# Altium schematic symbol library self.SchLib: 105 symbols (part 1 of 2)
Pins are listed as number, name and electrical type; pins without a type are passive.

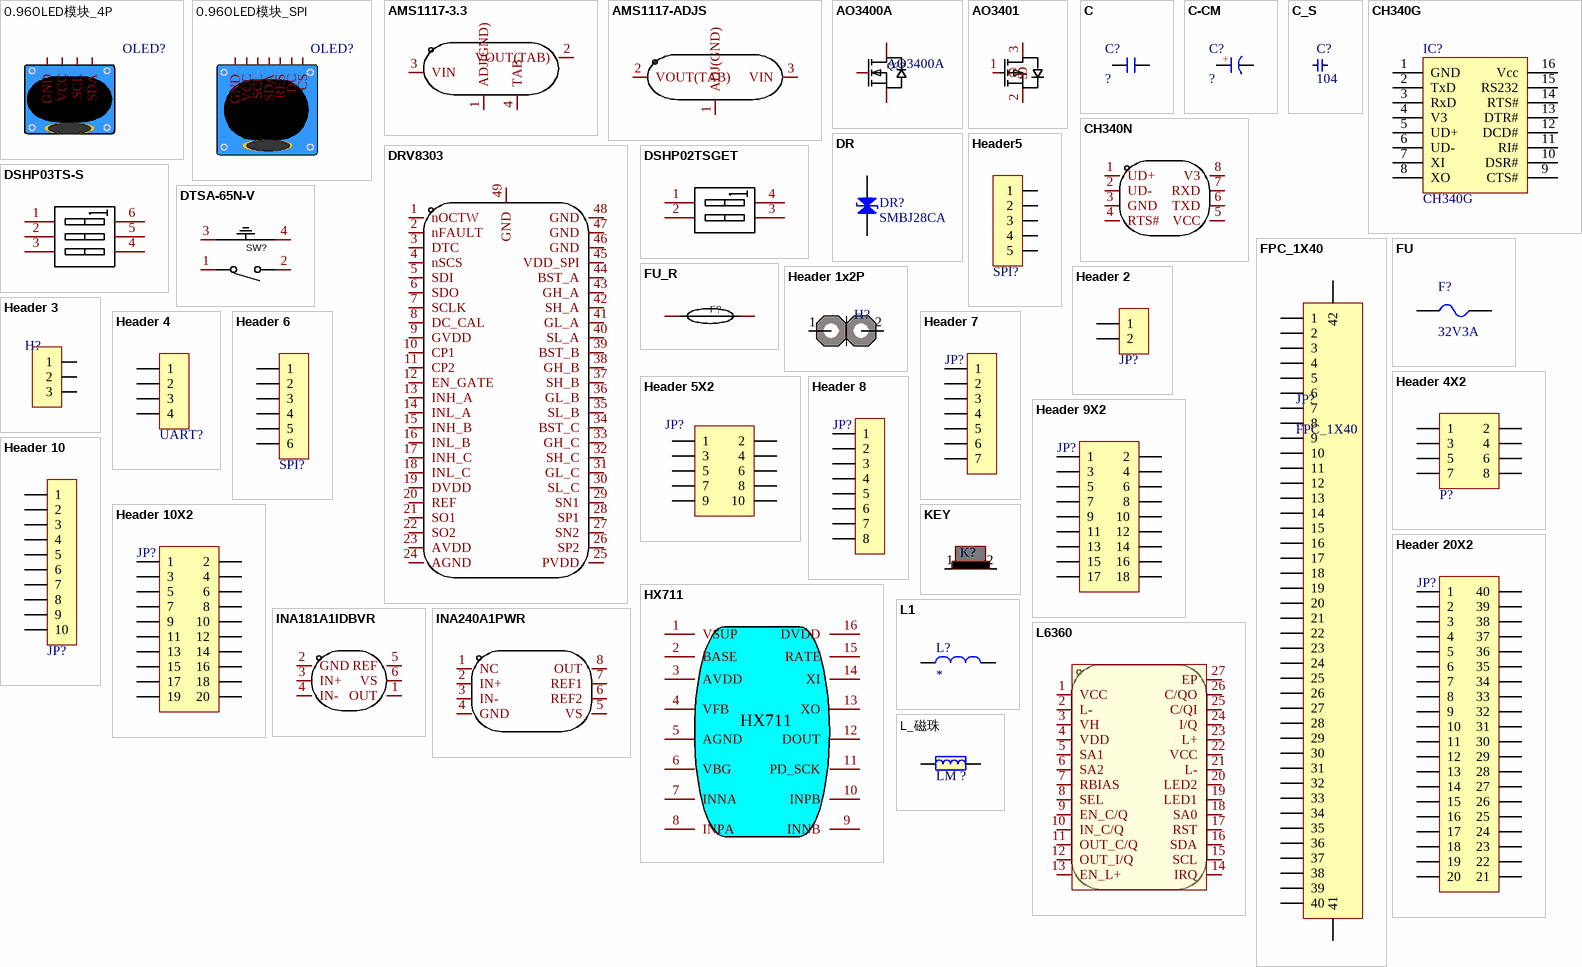
[diagram p0: symbols 0.96OLED模块_4P to L_磁珠]

## 0.96OLED模块_4P
designator OLED?  (value not drawn)
Convert to PCB: yes; Symbol: 0.96OLED模块_4P; Device: 0.96OLED模块_4P; Add into BOM: yes; Supplier Footprint: 插件
footprint 0.96OLED_4P
pins: 1 GND, 2 VCC, 3 SCL, 4 SDA

## 0.96OLED模块_SPI
designator OLED?, comment 0.96OLED模块_4P  (value not drawn)
Convert to PCB: yes; Symbol: 0.96OLED模块_4P; Device: 0.96OLED模块_4P; Add into BOM: yes; Supplier Footprint: 插件
footprint OLED-7P-SPI (排母，7脚)
pins: 1 GND, 2 VCC, 3 SCL, 4 SDA, 5 RES, 6 DC, 7 CS

## AMS1117-3.3
designator U??  (value not drawn)
5V转3V3; Manufacturer: UMW(广东友台半导体); Symbol: AMS1117-3.3_C347222; Add into BOM: yes; Output Type: 固定; Output Polarity: 正; Number of Outputs: 1; Maximum Input Voltage: 18V; Output Voltage: 3.3V; Dropout Voltage: 1.3V@(1A); Output Current: 1A; Power Supply Rejection Ratio (PSRR): 60dB@(120Hz); Name: AMS1117-3.3; Device: AMS1117-3.3_C347222; LCSC Part Name: AMS1117-3.3; Supplier Part: C347222; Manufacturer Part: AMS1117-3.3; Supplier Footprint: SOT-223; JLCPCB Part Class: Extended Part; Datasheet: https://atta.szlcsc.com/upload/public/pdf/source/20211011/50CC665C22E3A66C08379A4A74BDA25C.pdf; Supplier: LCSC; Convert to PCB: yes
footprint AMS1117-3.3(M) (SOT-223-4_L6.5-W3.5-P2.30-LS7.0-BR)
pins: 1 ADJ(GND), 2 VOUT(TAB), 3 VIN, 4 TAB

## AMS1117-ADJS
designator U??  (value not drawn)
可调LDO; Manufacturer: UMW(广东友台半导体); Add into BOM: yes; Name: AMS1117-ADJS; Symbol: AMS1117-ADJS; Device: AMS1117-ADJS; LCSC Part Name: AMS1117-ADJS; Supplier Part: C3014296; Manufacturer Part: AMS1117-ADJS; Supplier Footprint: SOT-89-3; JLCPCB Part Class: Extended Part; Datasheet: https://atta.szlcsc.com/upload/public/pdf/source/20181218/C351450_92F5FFD1D089F5E1CE84AA29B13D48DD.pdf; Supplier: LCSC; Convert to PCB: yes
footprint AMS1117-ADJ (SOT-89-3_L4.5-W2.5-P1.50-LS4.1-BL)
pins: 1 ADJ(GND), 2 VOUT(TAB), 3 VIN

## AO3400A
designator Q??
NMOS; Manufacturer: BORN(伯恩半导体); Symbol: AO3400A_C344010; Add into BOM: yes; Type: N沟道; Drain Source Voltage (Vdss): 30V; Continuous Drain Current (Id): 5.8A; Power Dissipation (Pd): 1.4W; Drain Source On Resistance (RDS(on)@Vgs,Id): 32mΩ@10V,5.8A; Gate Threshold Voltage (Vgs(th)@Id): 1.4V@250uA; Name: AO3400A; Device: AO3400A_C344010; LCSC Part Name: N沟道 耐压:30V 电流:5.8A; Supplier Part: C344010; Manufacturer Part: AO3400A; Supplier Footprint: SOT-23; JLCPCB Part Class: Extended Part; Datasheet: https://atta.szlcsc.com/upload/public/pdf/source/20181211/C344010_1A88330921524F88534EF594457919E8.pdf; Supplier: LCSC; Convert to PCB: yes
footprint SOT23-3L (3x1.3x1mm(长宽高))
footprint SOT23-3N (3x1.3x1mm(长宽高))
pins: 1 G, 2 S, 3 D

## AO3401
designator Q??, comment AO3401_C727156  (value not drawn)
PMOS; Manufacturer: TWGMC(台湾迪嘉); Name: AO3401; Add into BOM: yes; Type: P沟道; Drain Source Voltage (Vdss): 30V; Continuous Drain Current (Id): 4.2A; Power Dissipation (Pd): 350mW; Drain Source On Resistance (RDS(on)@Vgs,Id): 65mΩ@10V,4.2A; Gate Threshold Voltage (Vgs(th)@Id): 1.3V@250uA; Symbol: AO3401_C727156; Device: AO3401_C727156; LCSC Part Name: P沟道 30V 4.2A; Supplier Part: C727156; Manufacturer Part: AO3401; Supplier Footprint: SOT-23; JLCPCB Part Class: Extended Part; Datasheet: https://atta.szlcsc.com/upload/public/pdf/source/20200827/C727156_6E081BBEEFBC6B8FEE164CB196B0AF30.pdf; Supplier: LCSC; Convert to PCB: yes; Total Gate Charge (Qg@Vgs): -; Input Capacitance (Ciss@Vds): -; Reverse Transfer Capacitance (Crss@Vds): -; Operating Temperature: -
footprint SOT23-3N (3x1.3x1mm(长宽高))
footprint SOT23-3L (3x1.3x1mm(长宽高))
pins: 1 G, 2 S, 3 D

## C
designator C?, comment ?
无极性贴片电容; 版权归属: 源创客; BOM名称: 无极性贴片电容; 学习资源: www.ooocke.com
footprint C_0201 (无极性贴片电容)
footprint C 0402_L (无极性贴片电容)
footprint C 0402_M (无极性贴片电容)
footprint C 0603_L (无极性贴片电容)
footprint C_0805
footprint C_1206
footprint C 1210_L (无极性贴片电容)
pins: 1, 2

## C-CM
designator C?, comment ?
贴片电解电容; 版权归属: 源创客; BOM名称: 贴片电解电容; 学习资源: www.ooocke.com
footprint CAP_SMD 6.3x7.7 (CAP-SMD_BD6.3-L6.6-W6.6-LS7.6-RD)
footprint CAP_T_S (CAP-SMD_L1.6-W0.8-1)
footprint CAP_T (CAP-SMD_L3.5-W2.8-R-RD)
pins: 1 A, 2 K
text: +

## C_S
designator C?, comment 104
无极性贴片电容
footprint C_0201 (贴片无极性电容0201封装)
footprint C 0402_M (无极性贴片电容)
footprint C_0805 (贴片无极性电容0805封装)
footprint C 0603_L (无极性贴片电容)
footprint C 1210_L (无极性贴片电容)
footprint C_1206
footprint C 0402_L (无极性贴片电容)
pins: 1, 2

## CH340G
designator IC?
串口转USB; BOM名称: 串口转USB
footprint SOP16_N (10.3*6.2*1.8mm（长宽高）)
footprint SOP16_N (10.3*6.2*1.8mm（长宽高）)
pins: 1 GND, 2 TxD, 3 RxD, 4 V3, 5 UD+, 6 UD-, 7 XI, 8 XO, 9 CTS#, 10 DSR#, 11 RI#, 12 DCD#, 13 DTR#, 14 RTS#, 15 RS232, 16 Vcc

## CH340N
designator U??  (value not drawn)
Manufacturer: WCH(南京沁恒); Symbol: CH340N_C2977777; Add into BOM: yes; Device: CH340N; Supplier: LCSC; Supplier Part: C2977777; Manufacturer Part: CH340N; JLCPCB Part Class: Extended Part; LCSC Part Name: USB转串口芯片 CH340; Supplier Footprint: SOP-8; Datasheet: https://atta.szlcsc.com/upload/public/pdf/source/20230530/6E401E9554E9F5311886CC8B3F89B62E.pdf; Convert to PCB: yes
footprint CH340N (SOP-8_L4.9-W3.9-P1.27-LS6.0-BL)
pins: 1 UD+, 2 UD-, 3 GND, 4 RTS#, 5 VCC, 6 TXD, 7 RXD, 8 V3

## DR
designator DR?, comment SMBJ28CA
瞬态电压抑制二极管; BOM名称: 瞬态电压抑制二极管
footprint SMBJ28A (SMB_L4.5-W3.7-LS5.4-RD)
pins: 1 A, 2 K

## DRV8303
designator U??  (value not drawn)
栅极驱动器; Manufacturer: TI(德州仪器); Name: DRV8303DCA; Add into BOM: yes; Supply Voltage: 6V~60V; Interface: SPI,STEP/DIR; Symbol: DRV8303DCA; Device: DRV8303DCA; LCSC Part Name: 无刷直流BLDC电机驱动芯片 60V; Supplier Part: C1523892; Manufacturer Part: DRV8303DCA; Supplier Footprint: HTSSOP-48-EP-6.1mm; JLCPCB Part Class: Extended Part; Datasheet: https://www.ti.com/cn/lit/gpn/drv8303; Supplier: LCSC; Convert to PCB: yes; Type: 无刷直流BLDC; Output Current: -; Operating Temperature: -40℃~+125℃@(Ta)
footprint DRV8303 (HTSSOP-48_L12.5-W6.1-P0.50-LS8.1-BL-EP4.4)
pins: 1 nOCTW, 2 nFAULT, 3 DTC, 4 nSCS, 5 SDI, 6 SDO, 7 SCLK, 8 DC_CAL, 9 GVDD, 10 CP1, 11 CP2, 12 EN_GATE, 13 INH_A, 14 INL_A, 15 INH_B, 16 INL_B, 17 INH_C, 18 INL_C, 19 DVDD, 20 REF, 21 SO1, 22 SO2, 23 AVDD, 24 AGND, 25 PVDD, 26 SP2, 27 SN2, 28 SP1, 29 SN1, 30 SL_C, 31 GL_C, 32 SH_C, 33 GH_C, 34 BST_C, 35 SL_B, 36 GL_B, 37 SH_B, 38 GH_B, 39 BST_B, 40 SL_A, 41 GL_A, 42 SH_A, 43 GH_A, 44 BST_A, 45 VDD_SPI, 46 GND, 47 GND, 48 GND, 49 GND

## DSHP02TSGET
designator SW??  (value not drawn)
拨码开关2P; Manufacturer: YE; Add into BOM: yes; Circuit: 单刀单掷; Number of Positions: 2位; Symbol: DSHP02TSGET; Device: DSHP02TSGET; Supplier: LCSC; Manufacturer Part: DSHP02TSGET; Supplier Part: C40735; JLCPCB Part Class: Extended Part; LCSC Part Name: 2位 1.27间距; Supplier Footprint: SMD-4P,4.1x5.4mm; Datasheet: https://atta.szlcsc.com/upload/public/pdf/source/20230904/D79341BE29271F006F9CB44DF18F7895.pdf; Convert to PCB: yes; Type: 平拨,凹槽式; Lead Pitch: 1.27mm; Operating Life: -; Color: 黑色
footprint CSW1.27 SMD-2P (拨码开关 长：4.14mm，宽：5.4mm，高：2.3mm)
pins: 1 A1, 2 A2, 3 B2, 4 B1

## DSHP03TS-S
designator SW?  (value not drawn)
三路拨码开关; Manufacturer: XKB Connectivity(中国星坤); Add into BOM: yes; Circuit: 单刀单掷; Number of Positions: 3位; Pin Style: 鸥翼型; Current Rating: 25mA; Voltage Rating: 24V; Operating Life: 3千次; Symbol: DSHP03TS-S; Device: DSHP03TS-S; Supplier: LCSC; Supplier Part: C319051; Manufacturer Part: DSHP03TS-S; JLCPCB Part Class: Extended Part; LCSC Part Name: 间距1.27mm 平拨,凹槽式 3位拨码开关; Supplier Footprint: SMD-6P,5.4x5.4mm; Datasheet: https://atta.szlcsc.com/upload/public/pdf/source/20211009/11BE85C99D2C85B0991AF4F9D6EB8BDE.pdf; Convert to PCB: yes; Type: 平拨,凹槽式; Lead Pitch: 1.27mm; Operating Temperature: -20℃~+70℃; Color: 黑色
footprint SW-SMD_DSHP03TS-S
pins: 1, 2, 3, 4, 5, 6

## DTSA-65N-V
designator SW?  (value not drawn)
弯插按键; Manufacturer: 圜达; Add into BOM: yes; Circuit: 单刀单掷; Actuator Style: 圆形按钮; Switch Length: 6.2mm; Switch Height: 8.35mm; Contact Current: 50mA; Voltage Rating (DC): 12V; Name: DTSA-65N-V; Symbol: DTSA-65N-V; Device: DTSA-65N-V; LCSC Part Name: 插件90度 行程0.25mm 160gf; Supplier Part: C224975; Manufacturer Part: DTSA-65N-V; Supplier Footprint: 插件-4P,6.2x6.2mm,弯插; JLCPCB Part Class: Extended Part; Datasheet: https://atta.szlcsc.com/upload/public/pdf/source/20180517/C224975_54A41304CB20A875DFEA09B48A5ADCEB.pdf; Supplier: LCSC; Convert to PCB: yes; Mounting Style: -; Switch Width: 6.2mm; With Lamp: -; Mechanical Life: -
footprint SW-TH_DTSA-65N-V
3D model SW-TH_DTSA-65N-V-L7.4-W12.4-H7.1-P4.5-LS7.0
pins: 1, 2, 3, 4

## FPC_1X40
designator JP?
fpcl连接器
footprint FFC-SMD_40P-P0.50_FH12-40S-0.5SVA-54 (FPC_2X40)
footprint FPC-SMD_P0.50-40P_FGS-XJ-H2.0
pins: 1, 2, 3, 4, 5, 6, 7, 8, 9, 10, 11, 12, 13, 14, 15, 16, 17, 18, 19, 20, 21, 22, 23, 24, 25, 26, 27, 28, 29, 30, 31, 32, 33, 34, 35, 36, 37, 38, 39, 40, 41, 42

## FU
designator F?, comment 32V3A
贴片保险丝; BOM名称: 贴片保险丝
footprint FU0603
footprint FU0805
footprint FU 1206 (贴片保险丝)
pins: 1, 2

## FU_R
designator F?, comment BSMD0805-010-33V  (value not drawn)
Manufacturer: BHFUSE(佰宏); Add into BOM: yes; Operating Voltage (Max): 33V; Current Rating (Max): 40A; Hold Current: 100mA; Trip Current: 300mA; Power Dissipation: 500mW; Resistance - Initial (Ri) (Min): 750mΩ; Resistance - Post Trip (R1) (Max): 6Ω; Maximum Time to Trip: 1.5s; Symbol: BSMD0805-010-33V; Device: BSMD0805-010-33V; Supplier: LCSC; Supplier Part: C883101; Manufacturer Part: BSMD0805-010-33V; JLCPCB Part Class: Extended Part; LCSC Part Name: 0805 0.1A 33V 国产高电压; Supplier Footprint: 0805; Datasheet: https://atta.szlcsc.com/upload/public/pdf/source/20230512/7A46D6CD923C15CBB98FD769C08EDD80.pdf; Convert to PCB: yes; Operating Temperature: -40℃~+85℃
footprint FU0805
footprint FU0603
footprint FU 1206 (贴片保险丝)
pins: 1, 2

## Header5
designator SPI?, comment HDR1X5-2.54  (value not drawn)
5P接插件
footprint XH2.54-LS-5P (长：17.5mm，宽：6mm，高：8.3mm)
footprint GH1.25-5P (CONN-SMD_5P-P1.25_BOOMELE_A1254WF-05A)
pins: 1, 2, 3, 4, 5

## Header 1x2P
designator H?  (value not drawn)
footprint HDR-TH_2P-P2.54-V-M
pins: 1, 2

## Header 2
designator JP?, comment HDR-1X2  (value not drawn)
2P接插件; BOM名称: 2P接插件
footprint XH2.54-WS-2P (长：10mm，宽：8mm，高：6.1mm)
footprint XH2.54-LS-2P (长：10mm，宽：6mm，高：8.3mm)
footprint GH1.25-LS-2P (A1257WR-S-2P)
footprint 15EDGRM-02P-3.81mm
footprint DB2ERC-3.81-2P (CONN-TH_2P-P3.81_DB2ERC-3.81-2P)
footprint DB2EVC-3.81-2P-BK (CONN-TH_2P-P3.81_DB2EVC-3.81-2P-BK)
footprint DB2EVM-3.81-2P (CONN-TH_DB2EVM-3.81-2P)
pins: 1, 2

## Header 3
designator H?
3P接插件
footprint XH2.54-LS-3P (CONN-SMD_3P-P2.50_ZX-XH2.54-3PLT)
footprint GH1.25_3P
footprint XH2.54-3P-WT (CONN-SMD_3P-P2.54-XH2.54-WT)
pins: 1, 2, 3

## Header 4
designator UART?, comment HDR-1X4  (value not drawn)
4P接插件; BOM名称: 4P接插件
footprint GH1.25_4P (CONN-SMD_4P-P1.25_GH1.25-4PLI)
footprint XH2.54-LS-4P (长：15mm，宽：6mm，高：8.3mm)
footprint HDR-TH_4P-P2.54-V-M
pins: 1, 2, 3, 4

## Header 4X2
designator P?  (value not drawn)
4*2P接插件; BOM名称: 4*2P接插件
footprint IDC2.54-LI-2x4P (8P简易牛角座)
pins: 1, 2, 3, 4, 5, 6, 7, 8

## Header 5X2
designator JP?  (value not drawn)
5*2P接插件; 版权归属: 源创客; BOM名称: 5*2P接插件; 学习资源: www.ooocke.com
footprint IDC2.54-LI-2x5P (10P简易牛角座)
pins: 1, 2, 3, 4, 5, 6, 7, 8, 9, 10

## Header 6
designator SPI?, comment HDR-1X6  (value not drawn)
6P接插件; BOM名称: 6P接插件
footprint XH2.54-LS-6P (长：20mm，宽：6mm，高：8.3mm)
footprint GH1.25-6P (CONN-SMD_6P-P1.25_BX-BX-GH1.25-6PLT)
footprint GH1.25-6P-WT (CONN-SMD_6P-P1.25_GH1.25-6PWBPZ)
pins: 1, 2, 3, 4, 5, 6

## Header 7
designator JP?, comment HDR-1X7  (value not drawn)
7P接插件; 版权归属: 源创客; BOM名称: 7P接插件; 学习资源: www.ooocke.com
footprint XH2.54-WS-7P (长：22.5mm，宽：8mm，高：6.1mm)
footprint XH2.54-LS-7P (长：22.5mm，宽：6mm，高：8.3mm)
footprint GH1.25-7P (CONN-SMD_GH1.25-7PLTPZ)
pins: 1, 2, 3, 4, 5, 6, 7

## Header 8
designator JP?, comment HDR-1X8  (value not drawn)
7P接插件; 版权归属: 源创客; BOM名称: 7P接插件; 学习资源: www.ooocke.com
footprint XH2.54-WS-7P (长：22.5mm，宽：8mm，高：6.1mm)
footprint XH2.54-LS-7P (长：22.5mm，宽：6mm，高：8.3mm)
footprint GH1.25-7P (CONN-SMD_GH1.25-7PLTPZ)
pins: 1, 2, 3, 4, 5, 6, 7, 8

## Header 9X2
designator JP?, comment Header 2X9  (value not drawn)
10*2P接插件; 版权归属: 源创客; BOM名称: 10*2P接插件; 学习资源: www.ooocke.com
footprint Header-2x9 (HDR-TH_18P-P2.54-V-F-R2-C9-S2.54-1)
pins: 1, 2, 3, 4, 5, 6, 7, 8, 9, 10, 11, 12, 13, 14, 15, 16, 17, 18

## Header 10
designator JP?, comment HDR-1X10  (value not drawn)
10P接插件; BOM名称: 10P接插件
footprint XH2.54-WI-10P (接插件，10P)
footprint XH2.54-LI-10P (接插件，10P)
footprint HDR2.54-LI-10P (排针，10脚)
footprint HDR2.54-M-LI-10P (排母，10脚)
footprint HDR2.54-WI-10P (弯脚排针，10脚)
footprint HDR2.54-WS-10P (10P卧式贴片排针2.54)
footprint HDR2.54-Y-LI-10P (圆孔排母，10脚)
footprint HDR2.54-M-WS-10P (10P卧式贴片排母2.54)
footprint KF2510-LI-10P (接插件/2A)
footprint XH2.54-WS-10P (长：30mm，宽：8mm，高：6.1mm)
footprint XH2.54-LS-10P (长：30mm，宽：6mm，高：8.3mm)
footprint KF2EDGK-2.54-LI-10P (长：27.3mm，宽：8.1mm，高：10.1mm)
footprint KF2EDGK-2.54-WI-10P (长：27.3mm，宽：10.1mm，高：8.1mm)
pins: 1, 2, 3, 4, 5, 6, 7, 8, 9, 10

## Header 10X2
designator JP?, comment Header 2X10  (value not drawn)
10*2P接插件; 版权归属: 源创客; BOM名称: 10*2P接插件; 学习资源: www.ooocke.com
footprint IDC2.54-LI-2x10P (20P简易牛角座)
pins: 1, 2, 3, 4, 5, 6, 7, 8, 9, 10, 11, 12, 13, 14, 15, 16, 17, 18, 19, 20

## Header 20X2
designator JP?, comment Header 2X20  (value not drawn)
20*2P接插件; BOM名称: 10*2P接插件; 版权归属: 源创客; 学习资源: www.ooocke.com
pins: 1, 2, 3, 4, 5, 6, 7, 8, 9, 10, 11, 12, 13, 14, 15, 16, 17, 18, 19, 20, 21, 22, 23, 24, 25, 26, 27, 28, 29, 30, 31, 32, 33, 34, 35, 36, 37, 38, 39, 40

## HX711
designator U??  (value not drawn)
称重模块采样芯片; Manufacturer: AVIA(海芯科技); Add into BOM: yes; Symbol: HX711; Device: HX711; Supplier: LCSC; Manufacturer Part: HX711; Supplier Part: C43656; JLCPCB Part Class: Extended Part; LCSC Part Name: HX711; Supplier Footprint: SOP-16; Datasheet: https://atta.szlcsc.com/upload/public/pdf/source/20201105/C43656_14FD91CAE53E7DB415D03EABCB162D83.pdf; Convert to PCB: yes
footprint HX711 (SOP-16_L10.0-W3.9-P1.27-LS6.0-BL)
pins: 1 VSUP, 2 BASE, 3 AVDD, 4 VFB, 5 AGND, 6 VBG, 7 INNA, 8 INPA, 9 INNB, 10 INPB, 11 PD_SCK, 12 DOUT, 13 XO, 14 XI, 15 RATE, 16 DVDD

## INA181A1IDBVR
designator U??  (value not drawn)
Manufacturer: TI(德州仪器); Add into BOM: yes; Number of Channels: 单路; Supply Current: 260uA; Symbol: INA181A1IDBVR; Device: INA181A1IDBVR; LCSC Part Name: INA181A1IDBVR; Supplier Part: C2058943; Manufacturer Part: INA181A1IDBVR; Supplier Footprint: SOT-23-6; JLCPCB Part Class: Extended Part; Datasheet: https://www.ti.com/cn/lit/gpn/ina2181; Supplier: LCSC; Convert to PCB: yes; Operating Temperature: -40℃~+125℃
footprint INA181A1IDBVR (SOT-23-6_L2.9-W1.6-P0.95-LS2.8-TL)
pins: 1 OUT, 2 GND, 3 IN+, 4 IN-, 5 REF, 6 VS

## INA240A1PWR
designator U??  (value not drawn)
Manufacturer: TI(德州仪器); Add into BOM: yes; Number of Channels: 1; Supply Current: 1.8mA; Name: INA240A1PWR; Symbol: INA240A1PWR; Device: INA240A1PWR; LCSC Part Name: INA240A1PWR; Supplier Part: C93965; Manufacturer Part: INA240A1PWR; Supplier Footprint: TSSOP-8; JLCPCB Part Class: Extended Part; Datasheet: https://www.ti.com/cn/lit/gpn/ina240; Supplier: LCSC; Convert to PCB: yes; Operating Temperature: -40℃~+125℃
footprint INA240A1PWR (TSSOP-8_L4.4-W3.0-P0.65-LS6.4-BL)
pins: 1 NC, 2 IN+, 3 IN-, 4 GND, 5 VS, 6 REF2, 7 REF1, 8 OUT

## KEY
designator K?  (value not drawn)
footprint SW-SMD_L6.0-W6.0-LS6.6
pins: 1, 2

## L1
designator L?
电感
footprint L_SMD_4X4 (IND-SMD_L4.0-W4.0(磁胶电感))
footprint L_SMD_5X5 (IND-SMD_L5.4-W5.2_FXL0530)
footprint L_CD75 (IND-SMD_L7.0-W6.6)
footprint L_SMD_8X8 (IND-SMD_L8.0-W8.0)
footprint L_SMD_12X12 (IND-SMD_L12.3-W12.3_SMDRI127)
pins: 1, 2

## L6360
designator U??  (value not drawn)
IOLINK 收发芯片; Manufacturer: ST(意法半导体); Add into BOM: yes; Symbol: L6360; Device: L6360; Supplier: LCSC; Supplier Part: C1545415; Manufacturer Part: L6360; JLCPCB Part Class: Extended Part; LCSC Part Name: L6360; Supplier Footprint: VFQFPN-26(3.5x5); Datasheet: https://atta.szlcsc.com/upload/public/pdf/source/20210610/7593D167691375A1C7D29CA1B4CE73DE.pdf; Convert to PCB: yes
footprint L6360 (VFQFPN-26_L5.0-W3.5-P0.50-TL-EP)
pins: 1 VCC, 2 L-, 3 VH, 4 VDD, 5 SA1, 6 SA2, 7 RBIAS, 8 SEL, 9 EN_C/Q, 10 IN_C/Q, 11 OUT_C/Q, 12 OUT_I/Q, 13 EN_L+, 14 IRQ, 15 SCL, 16 SDA, 17 RST, 18 SA0, 19 LED1, 20 LED2, 21 L-, 22 VCC, 23 L+, 24 I/Q, 25 C/QI, 26 C/QO, 27 EP

## L_磁珠
designator LM ?, comment 0R@100MHz?  (value not drawn)
磁珠
footprint L_1206 (磁珠)
footprint L_0603 (磁珠)
footprint L_0805 (磁珠)
pins: 1, 2

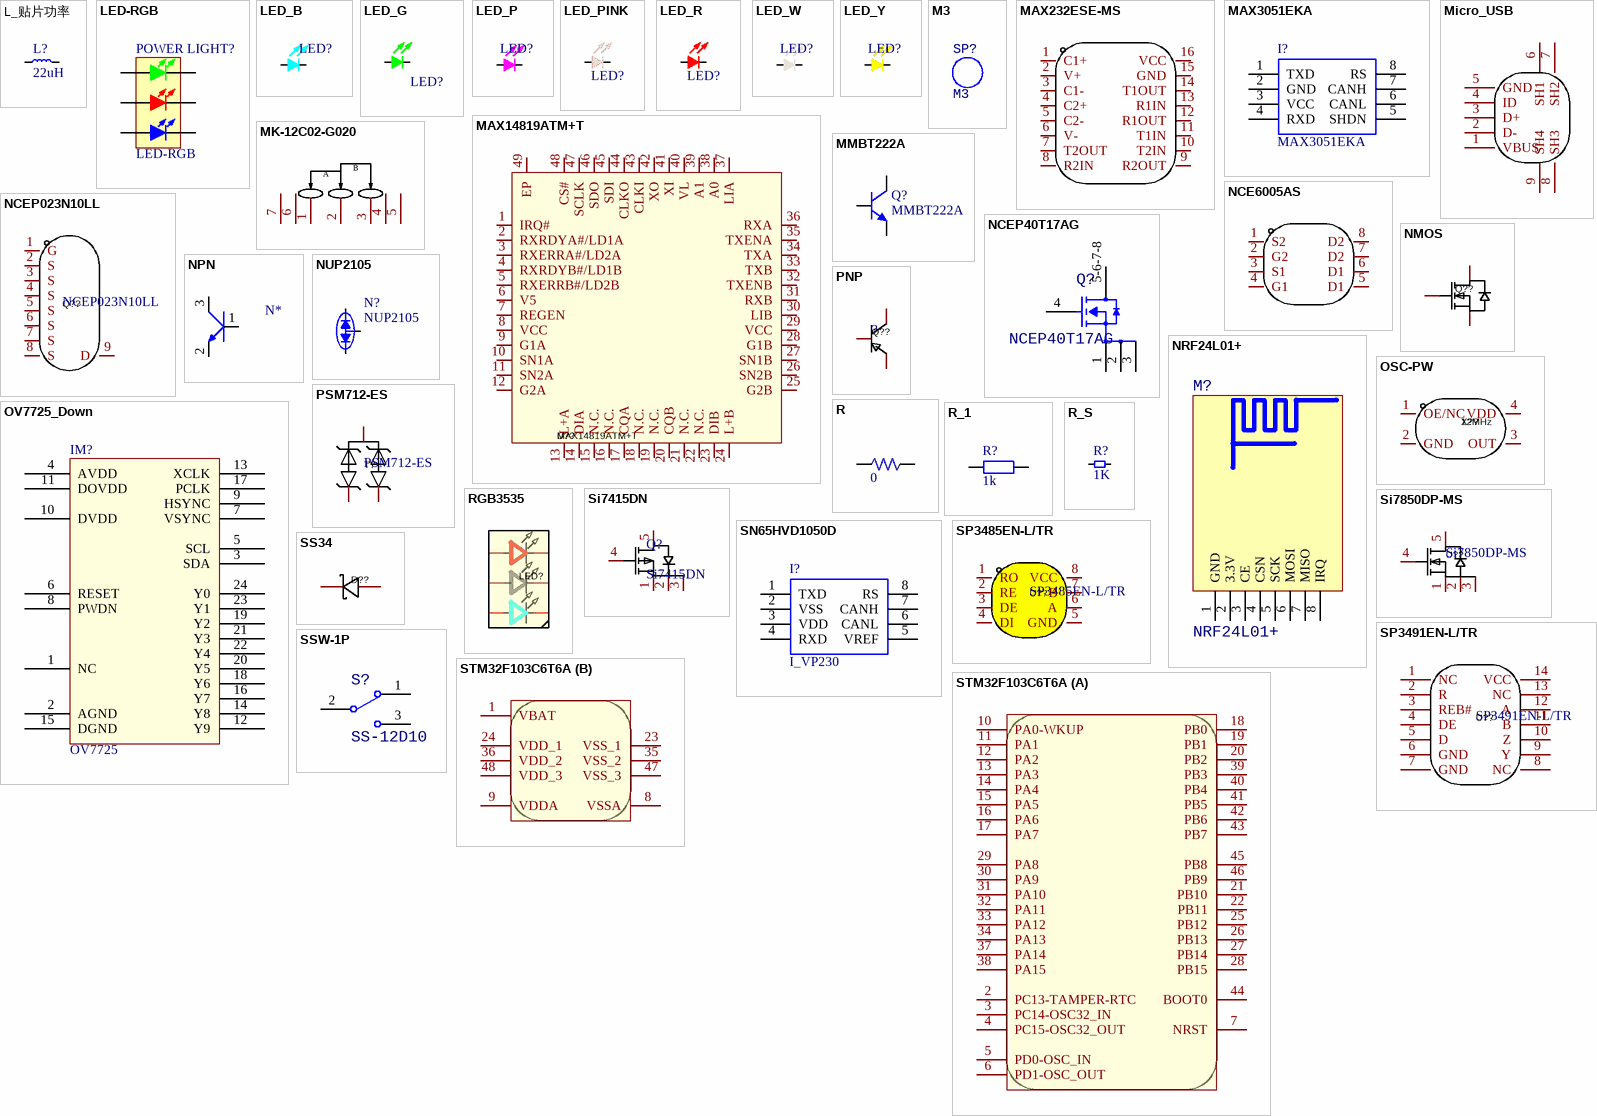
[diagram p1: symbols L_贴片功率 to STM32F103C6T6A]

## L_贴片功率
designator L?, comment 22uH
贴片屏蔽式功率电感
footprint L_TDK_SLF60XX (TDK贴片功率电感)
pins: 1, 2

## LED-RGB
designator POWER LIGHT?
三基色LED; BOM名称: 三基色LED
pins: 1 BULE_A, 2 BULE_K, 3 RED_A, 4 RED_K, 5 GREEN_A, 6 GREEN_K

## LED_B
designator LED?, comment 蓝灯  (value not drawn)
蓝色贴片LED
footprint LED 0603B (蓝色0603LED)
footprint LED-TH_B
pins: 1, 2

## LED_G
designator LED?, comment 绿灯  (value not drawn)
绿色贴片LED; BOM名称: 贴片LED
footprint LED 0603G (绿色0603LED)
footprint LED-TH_G
pins: 1, 2

## LED_P
designator LED?, comment 紫灯  (value not drawn)
紫色贴片LED
pins: 1, 2

## LED_PINK
designator LED?, comment 粉红灯  (value not drawn)
粉色贴片LED; ComponentLink1Description: 供应商链接; ComponentLink1URL: http://www.szlcsc.com/product/details_2659.html; Package: 0603; Supplier: LC; SuppliersPartNumber: C2286
footprint 0603_LED_S1
footprint 0603_LED_S1
pins: 1, 2

## LED_R
designator LED?, comment 红灯  (value not drawn)
红色贴片LED; ComponentLink1Description: 供应商链接; ComponentLink1URL: http://www.szlcsc.com/product/details_2659.html; Package: 0603; Supplier: LC; SuppliersPartNumber: C2286
footprint LED 0603R (红色0603LED)
footprint LED-TH_R
pins: 1, 2

## LED_W
designator LED?, comment 白灯  (value not drawn)
白色贴片LED
footprint LED 0603W (白色0603LED)
pins: 1, 2

## LED_Y
designator LED?, comment 黄灯  (value not drawn)
黄色贴片LED
pins: 1, 2

## M3
designator SP?
铜柱孔; BOM名称: 铜柱孔
footprint M3 125X200 (M3螺丝孔，孔125Mil，焊盘200Mil)

## MAX232ESE-MS
designator U??  (value not drawn)
Manufacturer: MSKSEMI(美森科); Add into BOM: yes; Types: 收发器; Driver/receiver: 2/2; Data Rate: 120Kbps; Supply Voltage: 5V; Symbol: MAX232ESE-MS; Device: MAX232ESE-MS; Supplier: LCSC; Supplier Part: C7434438; Manufacturer Part: MAX232ESE-MS; link: https://atta.szlcsc.com/upload/public/pdf/source/20230628/94CE02F1BEBFF408C8B161C6E00337A7.pdf; LCSC Part Name: MAX232ESE-MS; Supplier Footprint: SOP-16; Datasheet: https://atta.szlcsc.com/upload/public/pdf/source/20230628/94CE02F1BEBFF408C8B161C6E00337A7.pdf; Convert to PCB: yes
footprint MAX232 (SOIC-16_L9.9-W3.9-P1.27-LS6.0-BL)
footprint MAX232 (SOIC-16_L9.9-W3.9-P1.27-LS6.0-BL)
pins: 1 C1+, 2 V+, 3 C1-, 4 C2+, 5 C2-, 6 V-, 7 T2OUT, 8 R2IN, 9 R2OUT, 10 T2IN, 11 T1IN, 12 R1OUT, 13 R1IN, 14 T1OUT, 15 GND, 16 VCC

## MAX3051EKA
designator I?
FDCAN 总线收发器
footprint MAX3051EKA (Texas_Instruments_DCN0008A_IPC_C)
pins: 1 TXD, 2 GND, 3 VCC, 4 RXD, 5 SHDN, 6 CANL, 7 CANH, 8 RS

## MAX14819ATM+T
designator U??
IOLINK收发器; Manufacturer: ADI(亚德诺)/MAXIM(美信); Add into BOM: yes; Name: MAX14819ATM+T; Symbol: MAX14819ATM+T; Device: MAX14819ATM+T; LCSC Part Name: MAX14819ATM+T; Supplier Part: C2672572; Manufacturer Part: MAX14819ATM+T; Supplier Footprint: TQFN-48-EP(7x7); JLCPCB Part Class: Extended Part; Datasheet: https://atta.szlcsc.com/upload/public/pdf/source/20221101/27AABA7816E615FBCC9AE2D1C807DD05.pdf; Supplier: LCSC; Convert to PCB: yes
footprint TQFN-48_L7.0-W7.0-P0.50-TL-EP5.6
pins: 1 IRQ#, 2 RXRDYA#/LD1A, 3 RXERRA#/LD2A, 4 RXRDYB#/LD1B, 5 RXERRB#/LD2B, 6 V5, 7 REGEN, 8 VCC, 9 G1A, 10 SN1A, 11 SN2A, 12 G2A, 13 L+A, 14 DIA, 15 N.C., 16 N.C., 17 CQA, 18 N.C., 19 N.C., 20 CQB, 21 N.C., 22 N.C., 23 DIB, 24 L+B, 25 G2B, 26 SN2B, 27 SN1B, 28 G1B, 29 VCC, 30 LIB, 31 RXB, 32 TXENB, 33 TXB, 34 TXA, 35 TXENA, 36 RXA, 37 LIA, 38 A0, 39 A1, 40 VL, 41 XI, 42 XO, 43 CLKI, 44 CLKO, 45 SDI, 46 SDO, 47 SCLK, 48 CS#, 49 EP

## Micro_USB
designator USB??  (value not drawn)
5P USB; Manufacturer: SHOU HAN(首韩); Symbol: MICROXNJ; Add into BOM: yes; Connector Type: Micro-B; Gender: 母; Number of Ports: 1; Current Rating - Power (Max): 1A; Device: MicroXNJ; Supplier: LCSC; Supplier Part: C404969; Manufacturer Part: MicroXNJ; JLCPCB Part Class: Extended Part; LCSC Part Name: Micro-B 母 卧贴; Supplier Footprint: SMD; Datasheet: https://atta.szlcsc.com/upload/public/pdf/source/20220415/2494EDFF499AF6F852F7C820374B6AF3.pdf; Convert to PCB: yes; Standard: USB 2.0; Number of Contacts: 5P; Mounting Style: 卧贴; Operating Temperature Range: -20℃~+85℃
footprint MICRO-USB-SMD (5P USB)
pins: 1 VBUS, 2 D-, 3 D+, 4 ID, 5 GND, 6 SH1, 7 SH2, 8 SH3, 9 SH4

## MK-12C02-G020
designator SW??  (value not drawn)
拨动开关; Manufacturer: G-Switch(品赞); Add into BOM: yes; Circuit: 单刀双掷; Actuator Style: 矩形柱状; Pin Style: SMD接片; Switch Length: 6.6mm; Switch Width: 2.7mm; Switch Height: 4.7mm; Actuator Color: 黑色; Current Rating (DC): 1A; Voltage Rating (DC): 6V; Mechanical Life: 1万次; Symbol: MK-12C02-G020; Device: MK-12C02-G020; LCSC Part Name: 微型拨动开关; Supplier Part: C963206; Manufacturer Part: MK-12C02-G020; Supplier Footprint: SMD; JLCPCB Part Class: Extended Part; Datasheet: https://atta.szlcsc.com/upload/public/pdf/source/20200902/C778186_2AF08473ED98414D93A175E8814EEFA6.pdf; Supplier: LCSC; Convert to PCB: yes; Mounting Style: 卧贴; Operating Temperature: -20℃~+70℃
footprint 拨动开关 (SW-SMD_MK-12C02-G020)
pins: 1, 2, 3, 4, 5, 6, 7
text: B; A

## MMBT222A
designator Q?
高压-NPN型; 属性: 300V 0.5A; BOM名称: 高压-NPN型
footprint SOT23-3N (3x1.3x1mm(长宽高))
footprint SOT23-3L (3x1.3x1mm(长宽高))
pins: 1 B, 2 E, 3 C

## NCE6005AS
designator Q??  (value not drawn)
Manufacturer: NCE(无锡新洁能); Add into BOM: yes; Type: 2个N沟道; Drain Source Voltage (Vdss): 60V; Continuous Drain Current (Id): 5A; Power Dissipation (Pd): 2W; Drain Source On Resistance (RDS(on)@Vgs,Id): 35mΩ@10V,5A; Gate Threshold Voltage (Vgs(th)@Id): 2.5V@250uA; Name: NCE6005AS; Symbol: NCE6005AS; Device: NCE6005AS; LCSC Part Name: 2个N沟道 60V 5A; Supplier Part: C126151; Manufacturer Part: NCE6005AS; Supplier Footprint: SOP-8; JLCPCB Part Class: Extended Part; Datasheet: https://atta.szlcsc.com/upload/public/pdf/source/20170818/C126151_1503051224272895226.pdf; Supplier: LCSC; Convert to PCB: yes
footprint SOP8_L (4*5*1.8mm（长宽高）)
pins: 1 S2, 2 G2, 3 S1, 4 G1, 5 D1, 6 D1, 7 D2, 8 D2

## NCEP023N10LL
designator Q??
Manufacturer: NCE(无锡新洁能); Add into BOM: yes; Name: NCEP023N10LL; Symbol: NCEP023N10LL; Device: NCEP023N10LL; LCSC Part Name: NCEP023N10LL; Supplier Part: C2686686; Manufacturer Part: NCEP023N10LL; Supplier Footprint: TOLL; JLCPCB Part Class: Extended Part; Datasheet: https://atta.szlcsc.com/upload/public/pdf/source/20211028/8952B228EFC24217B65A664BEBCD3BF5.pdf; Supplier: LCSC; Convert to PCB: yes
footprint NCEP023N10LL (PG-HSOF-8-1_L10.4-W9.9-P1.2-LS11.7-TL)
pins: 1 G, 2 S, 3 S, 4 S, 5 S, 6 S, 7 S, 8 S, 9 D

## NCEP40T17AG
designator Q?
40-V 170-A, N channel Super Trench Power MOSFET, 1.4 mOhm @ Vgs = 10-V, -55 to 150
footprint NCE_DFN5X6_8L
pins: 1 S, 2 S, 3 S, 4 G, 5-6-7-8 D

## NMOS
designator Q??  (value not drawn)
MOS; Manufacturer: CJ(江苏长电/长晶); Name: 2N7002; Device: 2N7002_C8545; Add into BOM: yes; Type: N沟道; Drain Source Voltage (Vdss): 60V; Continuous Drain Current (Id): 115mA; Power Dissipation (Pd): 200mW; Drain Source On Resistance (RDS(on)@Vgs,Id): 7.5Ω@10V,500mA; Gate Threshold Voltage (Vgs(th)@Id): 2.5V@250uA; Symbol: 2N7002; LCSC Part Name: N沟道 60V 115mA; Supplier Part: C8545; Manufacturer Part: 2N7002; Supplier Footprint: SOT-23; JLCPCB Part Class: Basic Part; Datasheet: https://atta.szlcsc.com/upload/public/pdf/source/20170302/1488422688078.pdf; Supplier: LCSC; Convert to PCB: yes
footprint SOT23-3N (3x1.3x1mm(长宽高))
pins: 1 G, 2 S, 3 D

## NPN
designator N*  (value not drawn)
BJT
footprint SOT23-3L (3x1.3x1mm(长宽高))
pins: 1, 2, 3

## NRF24L01+
designator M?
2.4G无线模块; BOM名称: 2.4G无线模块
footprint NRF24L01+B (2.4G无线模块)
pins: 1 GND, 2 3.3V, 3 CE, 4 CSN, 5 SCK, 6 MOSI, 7 MISO, 8 IRQ

## NUP2105
designator N?
TVS
footprint SOT23-3N (3x1.3x1mm(长宽高))
pins: 1, 2, 3

## OSC-PW
designator X??, comment 12MHz
Manufacturer: YXC(扬兴晶振); Symbol: OT322512MJBA4SL; Add into BOM: yes; Supply Voltage: 1.8V~3.3V; Frequency Stability(Full temperature range): ±10ppm; Name: 12MHz; Device: OT322512MJBA4SL; LCSC Part Name: 12MHz ±10ppm 1.8V~3.3V YSO110TR; Supplier Part: C725989; Manufacturer Part: OT322512MJBA4SL; Supplier Footprint: SMD3225-4P; JLCPCB Part Class: Extended Part; Datasheet: https://atta.szlcsc.com/upload/public/pdf/source/20210329/C669065_30B18CFE780D377BA4E84F6ED1951959.pdf; Supplier: LCSC; Convert to PCB: yes; Value: 12MHz; Operating Temperature: -40℃~+85℃
footprint OSC-PW-SMD_4P-L3.2-W2.5-BL
pins: 1 OE/NC, 2 GND, 3 OUT, 4 VDD

## OV7725_Down
designator IM?, comment OV7725
footprint FPC0.5 2H-WS-24P (长：16.2mm，宽：5.2mm，高：2mm); pin to pad 1>24 2>23 3>22 4>21 5>20 6>19 7>18 8>17 9>16 10>15 11>14 12>13 13>12 14>11 15>10 16>9 17>8 18>7 19>6 20>5 21>4 22>3 23>2 24>1
pins: 1 NC (power), 2 AGND (power), 3 SDA (power), 4 AVDD (power), 5 SCL (power), 6 RESET (power), 7 VSYNC (power), 8 PWDN (power), 9 HSYNC (power), 10 DVDD (power), 11 DOVDD (power), 12 Y9 (power), 13 XCLK (power), 14 Y8 (power), 15 DGND (power), 16 Y7 (power), 17 PCLK (power), 18 Y6 (power), 19 Y2 (power), 20 Y5 (power), 21 Y3 (power), 22 Y4 (power), 23 Y1 (power), 24 Y0 (power)

## PNP
designator Q??, comment ?
BJT; Manufacturer: onsemi(安森美); Name: MMBT3906LT1G; Add into BOM: yes; Transistor Type: PNP; Collector-Emitter Breakdown Voltage (Vceo): 40V; Collector Current (Ic): 200mA; Power Dissipation (Pd): 300mW; Collector-Emitter Saturation Voltage (VCE(sat)@Ic,Ib): 400mV@5mA,50mA; DC Current Gain (hFE@Ic,Vce): 100@10mA,1V; Transition Frequency (fT): 250MHz; Symbol: MMBT3906LT1G; Device: MMBT3906LT1G; LCSC Part Name: PNP 40V 200mA PNP 双极晶体管; Supplier Part: C53444; Manufacturer Part: MMBT3906LT1G; Supplier Footprint: SOT-23; JLCPCB Part Class: Extended Part; Datasheet: https://atta.szlcsc.com/upload/public/pdf/source/20150713/1457707330085.pdf; Supplier: LCSC; Convert to PCB: yes; Operating Temperature: -55℃~+150℃@(Tj)
footprint SOT23-3L (3x1.3x1mm(长宽高))
pins: 1 B, 2 E, 3 C

## PSM712-ES
designator T?
ESD; Manufacturer: ElecSuper(静芯微); Add into BOM: yes; polarity: 双向; Reverse Stand-Off Voltage (Vrwm): 12V；7V; Reverse Leakage Current (Ir): 1uA; Number of Lines: 双路; Symbol: PSM712-ES; Device: PSM712-ES; LCSC Part Name: 2路双向ESD; Supplier Part: C5180294; Manufacturer Part: PSM712-ES; Supplier Footprint: SOT-23; JLCPCB Part Class: Extended Part; Datasheet: https://atta.szlcsc.com/upload/public/pdf/source/20220919/454D57F36C8C4E5E3120A97C3F5FD44E.pdf; Supplier: LCSC; Convert to PCB: yes; Operating Temperature: -55℃~+150℃; Type: ESD
footprint PSM712-ES (SOT-23-3_L2.9-W1.3-P1.90-LS2.4-BR)
pins: 1, 2, 3

## R
designator ?, comment 0
footprint R 0402_L (1/16W贴片电阻)
footprint R 0603_L (1/10W贴片电阻)
footprint R_0805
footprint R_3920 (锰铜分洗器采样电阻)
pins: 1, 2

## R_1
designator R?, comment 1k
贴片电阻; 版权归属: 源创客; BOM名称: 贴片电阻; 学习资源: www.ooocke.com
footprint R 0201_L (1/20W贴片电阻)
footprint R 0402_L (1/16W贴片电阻)
footprint R 0603_L (1/10W贴片电阻)
footprint R 0805_L (1/8W贴片电阻)
footprint R 1206_L (1/4W贴片电阻)
footprint R 1210_L (1/3W贴片电阻)
footprint R 1812_L (1/2W贴片电阻)
footprint R 2010_L (3/4W贴片电阻)
footprint R 2512_L (1W贴片电阻)
footprint R 0201_M (1/20W贴片电阻)
footprint R 0402_M (1/16W贴片电阻)
footprint R 0603_M (1/10W贴片电阻)
footprint R 0805_M (1/8W贴片电阻)
footprint R 1206_M (1/4W贴片电阻)
footprint R 1210_M (1/3W贴片电阻)
footprint R 1812_M (1/2W贴片电阻)
footprint R 2010_M (3/4W贴片电阻)
footprint R 2512_M (1W贴片电阻)
footprint 0603
footprint R 0603_L (1/10W贴片电阻)
pins: 1, 2

## R_S
designator R?, comment 1K
贴片电阻
footprint R 0402_L (1/16W贴片电阻)
footprint R 0603_L (1/10W贴片电阻)
footprint R_0805
footprint R_3920 (锰铜分洗器采样电阻)
pins: 1, 2

## RGB3535
designator LED?, comment NH-Z3535RGBA-SG  (value not drawn)
Manufacturer: 国星光电; Add into BOM: yes; Emitted Color: RGB三色; Forward Voltage (VF): 3.2V；3.3V；2.2V; Power Dissipation: 90mW；62mW; Forward Current: 20mA; Dominant Wavelength: 470nm；520nm；622nm; Luminous Intensity: 650mcd；1330mcd；280mcd; Viewing Angle: 110°; Symbol: NH-Z3535RGBA-SG; Device: NH-Z3535RGBA-SG; Supplier: LCSC; Supplier Part: C2874123; Manufacturer Part: NH-Z3535RGBA-SG; JLCPCB Part Class: Extended Part; LCSC Part Name: NH-Z3535RGBA-SG; Supplier Footprint: SMD3535; Datasheet: https://atta.szlcsc.com/upload/public/pdf/source/20210810/199524CDC81812F8E751A3939F2D289F.pdf; Convert to PCB: yes; Peak Wavelength: -; Diode Configuration: -; Lens Color: -; Color Temperature: -; Mounting Sytle: -; Operating Temperature: -30℃~+85℃
footprint RGB3535 (LED-ARRAY-SMD_6P-L3.7-W3.5-TL-RD)
pins: 1, 2, 3, 4, 5, 6

## Si7415DN
designator Q?
footprint DFN-8_L3.0-W3.0-P0.65-BL-2
pins: 1 S, 2 S, 3 S, 4 G, 5 D

## Si7850DP-MS
designator U??
NMOS; Manufacturer: MSKSEMI(美森科); Add into BOM: yes; Drain Source Voltage (Vdss): 60V; Continuous Drain Current (Id): 30A; Drain Source On Resistance (RDS(on)@Vgs,Id): 25mΩ@10V; Gate Threshold Voltage (Vgs(th)@Id): 2.5V; Symbol: SI7850DP-MS; Device: Si7850DP-MS; Supplier: LCSC; Supplier Part: C17702954; Manufacturer Part: Si7850DP-MS; LCSC Part Name: 1个N沟道 耐压:60V 电流:30A; Supplier Footprint: DFN5x6-8L; Datasheet: https://atta.szlcsc.com/upload/public/pdf/source/20230927/7C1150F7F3F82C80E112876DBD0CA354.pdf; Convert to PCB: yes; Type: 1个N沟道
footprint TDSON-8_L5.9-W5.2-P1.27-BL
pins: 1 S, 2 S, 3 S, 4 G, 5 D

## SN65HVD1050D
designator I?, comment I_VP230
Can 总线收发器
footprint SN65HVD1050D (CAN总线收发器)
pins: 1 TXD, 2 VSS, 3 VDD, 4 RXD, 5 VREF, 6 CANL, 7 CANH, 8 RS

## SP3485EN-L/TR
designator U??
RS485收发器; Manufacturer: MaxLinear; Add into BOM: yes; Types: 收发器; Driver/receiver: 1/1; Data Rate: 10Mbps; Supply Voltage: 3.3V; Symbol: SP3485EN-L/TR; Device: SP3485EN-L/TR; Supplier: LCSC; Manufacturer Part: SP3485EN-L/TR; Supplier Part: C8963; JLCPCB Part Class: Basic Part; LCSC Part Name: 3.3V供电 10Mbps 收发器; Supplier Footprint: SOP-8; Datasheet: https://atta.szlcsc.com/upload/public/pdf/source/20170601/1496285796963.pdf; Convert to PCB: yes; Operating Temperature: -40℃~+85℃
footprint SOP8_L (4*5*1.8mm（长宽高）)
pins: 1 RO, 2 RE, 3 DE, 4 DI, 5 GND, 6 A, 7 B, 8 VCC

## SP3491EN-L/TR
designator U??
RS422收发器; Manufacturer: MaxLinear(迈凌); Add into BOM: yes; Types: 收发器; Supply Voltage: 3V~3.6V; Data Rate: 10Mbps; Driver/receiver: 1/1; Symbol: SP3491EN; Device: SP3491EN-L/TR; LCSC Part Name: 3.3V供电 10Mbps 收发器; Supplier Part: C26737; Manufacturer Part: SP3491EN-L/TR; Supplier Footprint: SOIC-14; JLCPCB Part Class: Extended Part; Datasheet: https://atta.szlcsc.com/upload/public/pdf/source/20180412/C26737_90D97B14A43C8A5202751030EC874B12.pdf; Supplier: LCSC; Convert to PCB: yes; Operating Temperature: -40℃~+85℃
footprint SOIC-14_L8.7-W3.9-P1.27-LS6.0-BL
pins: 1 NC, 2 R, 3 REB#, 4 DE, 5 D, 6 GND, 7 GND, 8 NC, 9 Y, 10 Z, 11 B, 12 A, 13 NC, 14 VCC

## SS34
designator D??  (value not drawn)
Manufacturer: Slkor(萨科微); Symbol: SS34_C408258; Add into BOM: yes; Reverse Voltage (Vr): 40V; Average Rectified Current (Io): 3A; Forward Voltage (Vf@If): 500mV@3A; Name: SS34; Device: SS34_C408258; LCSC Part Name: 40V 3A 500mV@3A; Supplier Part: C408258; Manufacturer Part: SS34; Supplier Footprint: SMA; JLCPCB Part Class: Extended Part; Datasheet: https://atta.szlcsc.com/upload/public/pdf/source/20190729/C408258_B89804B8B5843AB8B6DB9D5CEE0FD81B.pdf; Supplier: LCSC; Convert to PCB: yes
footprint SOD-123FL_L2.7-W1.8-LS3.8-RD
footprint SS34)(M) (SMA_L4.3-W2.5-LS5.0-RD)
pins: 1 C, 2 A

## SSW-1P
designator S?, comment SS-12D10
1路波动开关; BOM名称: 波动开关
footprint SS-12D10
pins: 1, 2, 3

## STM32F103C6T6A
designator U??  (value not drawn)
Manufacturer: ST(意法半导体); Add into BOM: yes; CPU Core: ARM Cortex-M3; CPU Maximum Speed: 72MHz; Operating Voltage Range: 2V~3.6V; Program Storage Size: 32KB; Program Memory Type: FLASH; RAM Size: 10KB; GPIO Ports Number: 37; ADC (Bit): 12bit; Universal Serial Bus: 有; Peripheral/Function: DMA；片载温度传感器；PWM; Symbol: STM32F103C6T6A; Device: STM32F103C6T6A; LCSC Part Name: STM32F103C6T6A; Supplier Part: C8303; Manufacturer Part: STM32F103C6T6A; Supplier Footprint: LQFP-48(7x7); JLCPCB Part Class: Extended Part; Datasheet: https://atta.szlcsc.com/upload/public/pdf/source/20140724/1457707171306.pdf; Supplier: LCSC; Convert to PCB: yes; EEPROM: -; DAC (Bit): -; PWM (Bit): -; Internal Comparator: -; communication protocol: -; Watchdog: 有; Real-Time Clock: -; Infrared Data Association: 有; Low-Voltage Detect: 有; CCP Capture/Compare: -; Secure Digital Input and Output: -; Direct Memory Access: 有; Internal Oscillator: 有; Operating Temperature Range: -40℃~+85℃
footprint LQFP-48_L7.0-W7.0-P0.50-LS9.0-BL
part A pins: 2 PC13-TAMPER-RTC, 3 PC14-OSC32_IN, 4 PC15-OSC32_OUT, 5 PD0-OSC_IN, 6 PD1-OSC_OUT, 7 NRST, 10 PA0-WKUP, 11 PA1, 12 PA2, 13 PA3, 14 PA4, 15 PA5, 16 PA6, 17 PA7, 18 PB0, 19 PB1, 20 PB2, 21 PB10, 22 PB11, 25 PB12, 26 PB13, 27 PB14, 28 PB15, 29 PA8, 30 PA9, 31 PA10, 32 PA11, 33 PA12, 34 PA13, 37 PA14, 38 PA15, 39 PB3, 40 PB4, 41 PB5, 42 PB6, 43 PB7, 44 BOOT0, 45 PB8, 46 PB9
part B pins: 1 VBAT, 8 VSSA, 9 VDDA, 23 VSS_1, 24 VDD_1, 35 VSS_2, 36 VDD_2, 47 VSS_3, 48 VDD_3

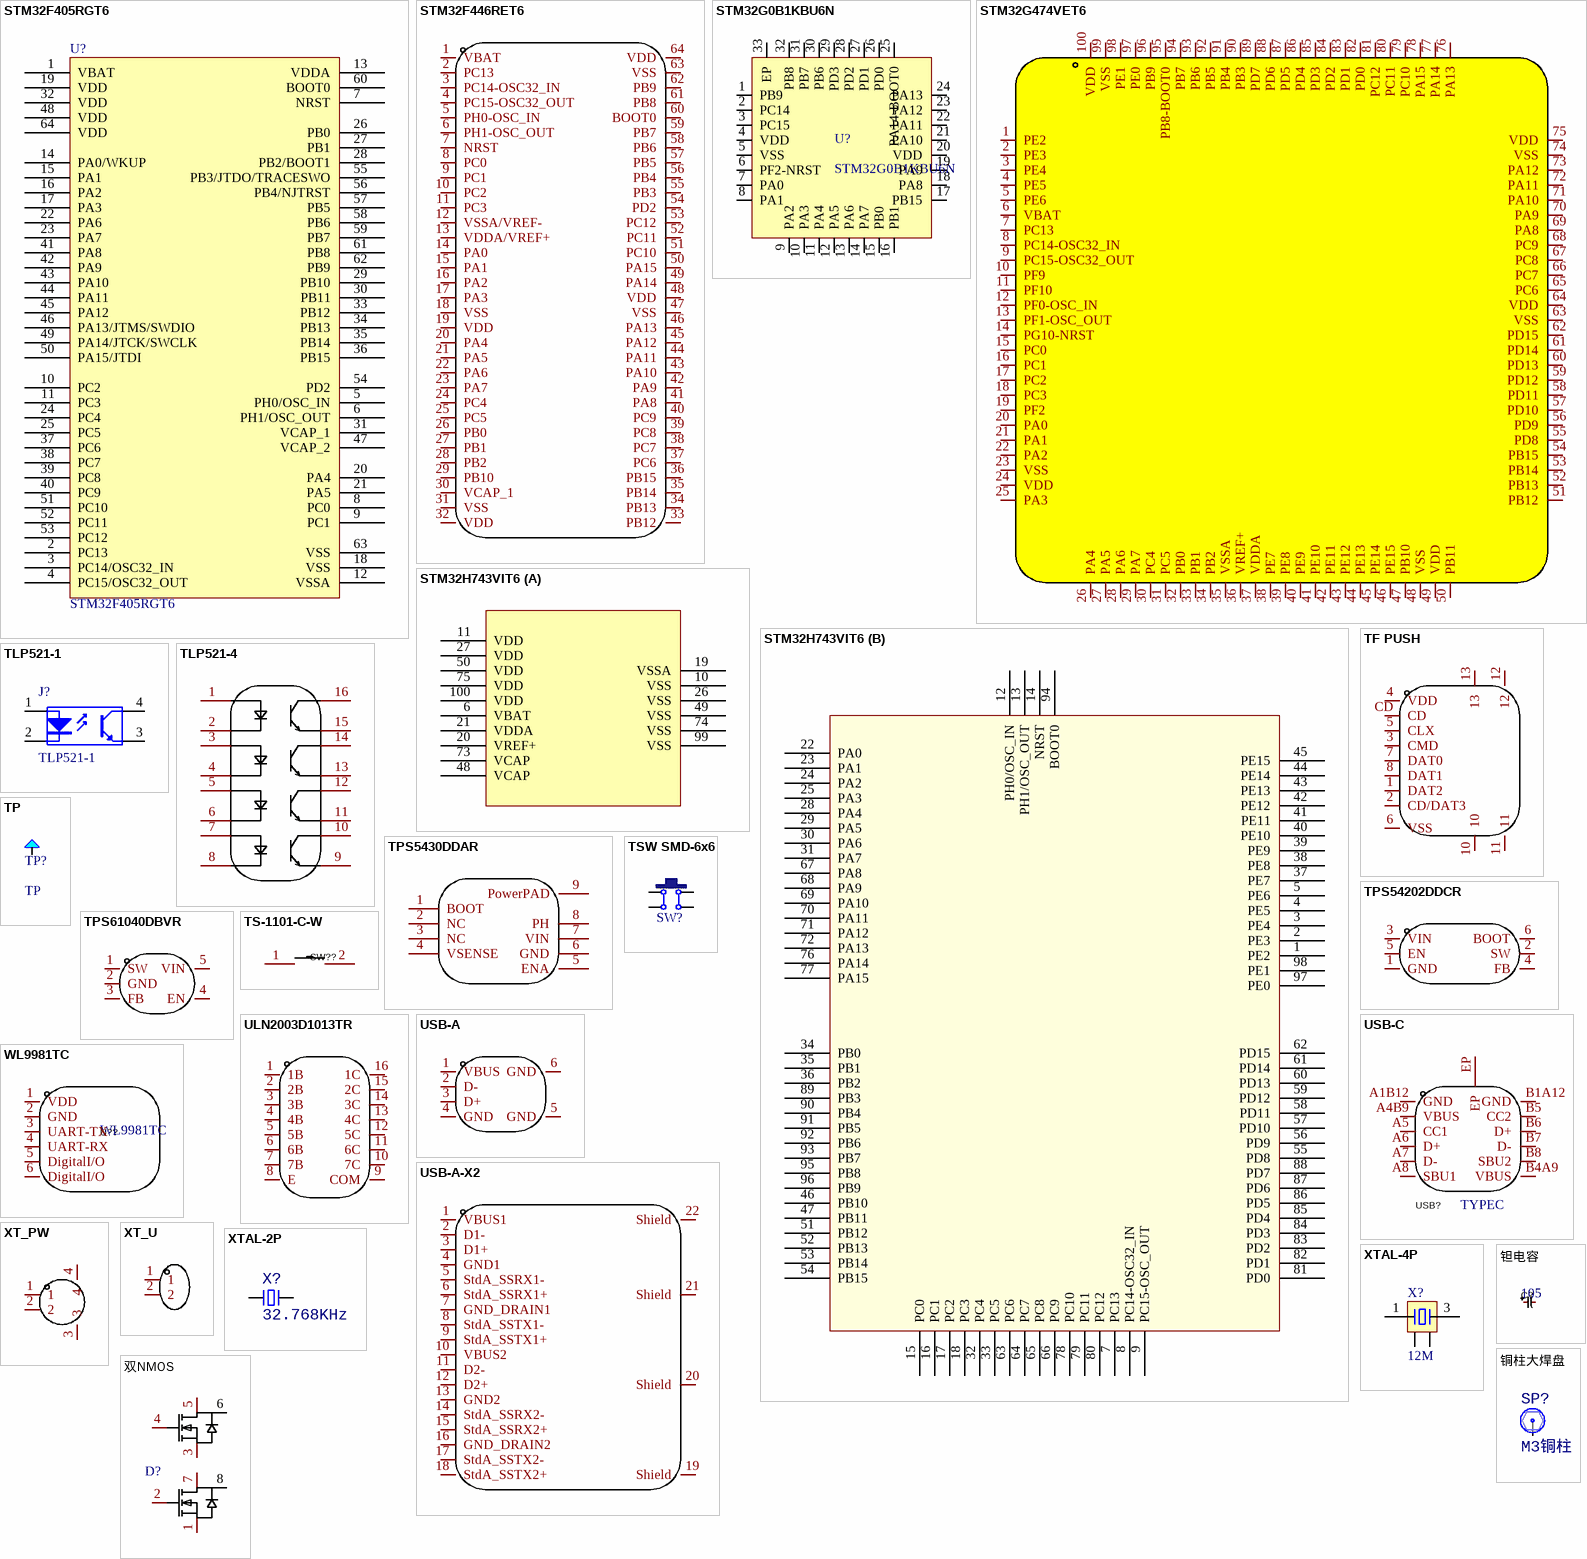
[diagram p2: symbols STM32F405RGT6 to 铜柱大焊盘]

## STM32F405RGT6
designator U?
footprint LQFP-64_L10.0-W10.0-P0.50-LS12.0-BL
pins: 1 VBAT, 2 PC13, 3 PC14/OSC32_IN, 4 PC15/OSC32_OUT, 5 PH0/OSC_IN, 6 PH1/OSC_OUT, 7 NRST, 8 PC0, 9 PC1, 10 PC2, 11 PC3, 12 VSSA, 13 VDDA, 14 PA0/WKUP, 15 PA1, 16 PA2, 17 PA3, 18 VSS, 19 VDD, 20 PA4, 21 PA5, 22 PA6, 23 PA7, 24 PC4, 25 PC5, 26 PB0, 27 PB1, 28 PB2/BOOT1, 29 PB10, 30 PB11, 31 VCAP_1, 32 VDD, 33 PB12, 34 PB13, 35 PB14, 36 PB15, 37 PC6, 38 PC7, 39 PC8, 40 PC9, 41 PA8, 42 PA9, 43 PA10, 44 PA11, 45 PA12, 46 PA13/JTMS/SWDIO, 47 VCAP_2, 48 VDD, 49 PA14/JTCK/SWCLK, 50 PA15/JTDI, 51 PC10, 52 PC11, 53 PC12, 54 PD2, 55 PB3/JTDO/TRACESWO, 56 PB4/NJTRST, 57 PB5, 58 PB6, 59 PB7, 60 BOOT0, 61 PB8, 62 PB9, 63 VSS, 64 VDD

## STM32F446RET6
designator U??  (value not drawn)
Manufacturer: ST(意法半导体); Add into BOM: yes; CPU Core: ARM Cortex-M4; CPU Maximum Speed: 180MHz; Operating Voltage Range: 1.7V~3.6V; Program Storage Size: 512KB; Program Memory Type: FLASH; RAM Size: 128KB; GPIO Ports Number: 50; ADC (Bit): 12bit; Universal Serial Bus: 有; Peripheral/Function: PWM；PWM；低电压检测; Name: STM32F446RET6; Symbol: STM32F446RET6; Device: STM32F446RET6; LCSC Part Name: STM32F446RET6 MSL=3; Supplier Part: C69336; Manufacturer Part: STM32F446RET6; Supplier Footprint: LQFP-64(10x10); JLCPCB Part Class: Extended Part; Datasheet: https://atta.szlcsc.com/upload/public/pdf/source/20170518/1495086068896.pdf; Supplier: LCSC; Convert to PCB: yes; EEPROM: -; DAC (Bit): 12bit; PWM (Bit): -; Internal Comparator: -; communication protocol: -; Watchdog: 有; Real-Time Clock: -; Infrared Data Association: 有; Low-Voltage Detect: 有; CCP Capture/Compare: -; Secure Digital Input and Output: -; Direct Memory Access: 有; Internal Oscillator: 有; Operating Temperature Range: -40℃~+85℃
footprint LQFP-64_L10.0-W10.0-P0.50-LS12.0-BL
pins: 1 VBAT, 2 PC13, 3 PC14-OSC32_IN, 4 PC15-OSC32_OUT, 5 PH0-OSC_IN, 6 PH1-OSC_OUT, 7 NRST, 8 PC0, 9 PC1, 10 PC2, 11 PC3, 12 VSSA/VREF-, 13 VDDA/VREF+, 14 PA0, 15 PA1, 16 PA2, 17 PA3, 18 VSS, 19 VDD, 20 PA4, 21 PA5, 22 PA6, 23 PA7, 24 PC4, 25 PC5, 26 PB0, 27 PB1, 28 PB2, 29 PB10, 30 VCAP_1, 31 VSS, 32 VDD, 33 PB12, 34 PB13, 35 PB14, 36 PB15, 37 PC6, 38 PC7, 39 PC8, 40 PC9, 41 PA8, 42 PA9, 43 PA10, 44 PA11, 45 PA12, 46 PA13, 47 VSS, 48 VDD, 49 PA14, 50 PA15, 51 PC10, 52 PC11, 53 PC12, 54 PD2, 55 PB3, 56 PB4, 57 PB5, 58 PB6, 59 PB7, 60 BOOT0, 61 PB8, 62 PB9, 63 VSS, 64 VDD

## STM32G0B1KBU6N
designator U?
2FDCAN,3I2C,2SPI,8UART
footprint UFQFPN-32_L5.0-W5.0-P0.50-BL-EP
pins: 1 PB9, 2 PC14, 3 PC15, 4 VDD, 5 VSS, 6 PF2-NRST, 7 PA0, 8 PA1, 9 PA2, 10 PA3, 11 PA4, 12 PA5, 13 PA6, 14 PA7, 15 PB0, 16 PB1, 17 PB15, 18 PA8, 19 PA9, 20 VDD, 21 PA10, 22 PA11, 23 PA12, 24 PA13, 25 PA14-BOOT0, 26 PD0, 27 PD1, 28 PD2, 29 PD3, 30 PB6, 31 PB7, 32 PB8, 33 EP

## STM32G474VET6
designator U??  (value not drawn)
Manufacturer: ST(意法半导体); Add into BOM: yes; CPU Core: ARM Cortex-M4; Maximum Frequency: 170MHz; Supply Voltage Range: 1.71V~3.6V; Internal Oscillator: 有; Program FLASH Size: 512K@x8bit; RAM Size: 128KB; GPIO Ports Number: 86; ADC (Units/Channels/bits): 1@x42ch/12bit; DAC (Units/Channels/bits): 1@x7ch/12bit; Peripherals / Functions / Protocol Stacks: DMA；PWM；看门狗; Symbol: STM32G474VET6; Device: STM32G474VET6; LCSC Part Name: ARM Cortex-M4 170MHz 闪存：512K@x8bit RAM：128KB; Supplier Part: C431632; Manufacturer Part: STM32G474VET6; Supplier Footprint: LQFP-100; JLCPCB Part Class: Extended Part; Datasheet: https://atta.szlcsc.com/upload/public/pdf/source/20200902/C431632_38212262685EE30B1989689374F08940.pdf; Supplier: LCSC; Convert to PCB: yes; EEPROM/Data FLASH Size: -; Operating Temperature Range: -40℃~+85℃
footprint STMicroelectronics_LQFP100-1L_MFG
pins: 1 PE2, 2 PE3, 3 PE4, 4 PE5, 5 PE6, 6 VBAT, 7 PC13, 8 PC14-OSC32_IN, 9 PC15-OSC32_OUT, 10 PF9, 11 PF10, 12 PF0-OSC_IN, 13 PF1-OSC_OUT, 14 PG10-NRST, 15 PC0, 16 PC1, 17 PC2, 18 PC3, 19 PF2, 20 PA0, 21 PA1, 22 PA2, 23 VSS, 24 VDD, 25 PA3, 26 PA4, 27 PA5, 28 PA6, 29 PA7, 30 PC4, 31 PC5, 32 PB0, 33 PB1, 34 PB2, 35 VSSA, 36 VREF+, 37 VDDA, 38 PE7, 39 PE8, 40 PE9, 41 PE10, 42 PE11, 43 PE12, 44 PE13, 45 PE14, 46 PE15, 47 PB10, 48 VSS, 49 VDD, 50 PB11, 51 PB12, 52 PB13, 53 PB14, 54 PB15, 55 PD8, 56 PD9, 57 PD10, 58 PD11, 59 PD12, 60 PD13, 61 PD14, 62 PD15, 63 VSS, 64 VDD, 65 PC6, 66 PC7, 67 PC8, 68 PC9, 69 PA8, 70 PA9, 71 PA10, 72 PA11, 73 PA12, 74 VSS, 75 VDD, 76 PA13, 77 PA14, 78 PA15, 79 PC10, 80 PC11, 81 PC12, 82 PD0, 83 PD1, 84 PD2, 85 PD3, 86 PD4, 87 PD5, 88 PD6, 89 PD7, 90 PB3, 91 PB4, 92 PB5, 93 PB6, 94 PB7, 95 PB8-BOOT0, 96 PB9, 97 PE0, 98 PE1, 99 VSS, 100 VDD

## STM32H743VIT6
designator U??  (value not drawn)
Manufacturer: ST(意法半导体); Add into BOM: yes; CPU Core: ARM-M系列; GPIO Ports Number: 82; Operating Voltage Range: 1.71V~3.6V; CPU Maximum Speed: 480MHz; ADC (Bit): 16bit; DAC (Bit): 12bit; Universal Serial Bus: 有; Symbol: STM32H743VIT6; Device: STM32H743VIT6; Supplier: LCSC; Supplier Part: C529058; Manufacturer Part: STM32H743VIT6; JLCPCB Part Class: Extended Part; LCSC Part Name: STM32H743VIT6; Supplier Footprint: LQFP-100(14x14); Datasheet: https://atta.szlcsc.com/upload/public/pdf/source/20200508/C529058_DA70143F266D6D825C3A912656F12A87.pdf; Convert to PCB: yes; Operating Temperature Range: -40℃~+85℃; Secure Digital Input and Output: 有; Direct Memory Access: 有
footprint LQFP-100_L14.0-W14.0-P0.50-LS16.0-BL
part A pins: 6 VBAT, 10 VSS, 11 VDD, 19 VSSA, 20 VREF+, 21 VDDA, 26 VSS, 27 VDD, 48 VCAP, 49 VSS, 50 VDD, 73 VCAP, 74 VSS, 75 VDD, 99 VSS, 100 VDD
part B pins: 1 PE2, 2 PE3, 3 PE4, 4 PE5, 5 PE6, 7 PC13, 8 PC14-OSC32_IN, 9 PC15-OSC_OUT, 12 PH0/OSC_IN, 13 PH1/OSC_OUT, 14 NRST, 15 PC0, 16 PC1, 17 PC2, 18 PC3, 22 PA0, 23 PA1, 24 PA2, 25 PA3, 28 PA4, 29 PA5, 30 PA6, 31 PA7, 32 PC4, 33 PC5, 34 PB0, 35 PB1, 36 PB2, 37 PE7, 38 PE8, 39 PE9, 40 PE10, 41 PE11, 42 PE12, 43 PE13, 44 PE14, 45 PE15, 46 PB10, 47 PB11, 51 PB12, 52 PB13, 53 PB14, 54 PB15, 55 PD8, 56 PD9, 57 PD10, 58 PD11, 59 PD12, 60 PD13, 61 PD14, 62 PD15, 63 PC6, 64 PC7, 65 PC8, 66 PC9, 67 PA8, 68 PA9, 69 PA10, 70 PA11, 71 PA12, 72 PA13, 76 PA14, 77 PA15, 78 PC10, 79 PC11, 80 PC12, 81 PD0, 82 PD1, 83 PD2, 84 PD3, 85 PD4, 86 PD5, 87 PD6, 88 PD7, 89 PB3, 90 PB4, 91 PB5, 92 PB6, 93 PB7, 94 BOOT0, 95 PB8, 96 PB9, 97 PE0, 98 PE1

## TF PUSH
designator CARD??  (value not drawn)
Manufacturer: SHOU HAN(首韩); Add into BOM: yes; Card Connection Mode: 自弹式; Card Type: MicroSD卡(TF卡); Connector Type: 卡座; Maximum Body Height: 2mm; Additional Card Detection Pins: 无; Symbol: TF PUSH; Device: TF PUSH; LCSC Part Name: 自弹式 MicroSD卡(TF卡) 卡座; Supplier Part: C393941; Manufacturer Part: TF PUSH; Supplier Footprint: SMD; JLCPCB Part Class: Extended Part; Datasheet: https://atta.szlcsc.com/upload/public/pdf/source/20191011/C393941_0DDD896EE907FEB750D8B7B8982E2A67.pdf; Supplier: LCSC; Convert to PCB: yes; Contact Material: -; Contact Plating: -; Operating Temperature Range: -20℃~+90℃; Soldering Temperature(Max): -; Supplementary Features: -
footprint TF-SMD_TF-PUSH
pins: 1 DAT2, 2 CD/DAT3, 3 CMD, 4 VDD, 5 CLX, 6 VSS, 7 DAT0, 8 DAT1, 10, 11, 12, 13, CD

## TLP521-1
designator J?
1路开关光耦; BOM名称: 1路开关光耦
footprint SOP4-W2.54_N (6.5*4.58*3.5mm（长宽高）)
pins: 1 A "Anode", 2 K "Cathode", 3 E "Emitter", 4 C "Collector"

## TLP521-4
designator U??  (value not drawn)
Manufacturer: LITEON(光宝); Symbol: LTV-247; Add into BOM: yes; Input voltage type: DC; Output Type: 光电三极管; Forward Voltage: 1.2V; Output Current: 50mA; Isolation Voltage(rms): 3.75kV; Reverse Voltage: 6V; Receiving End Voltage: 80V; Number of Outputs: 4; Collector-Emitter Saturation Voltage (Vce(sat)@Ic,IF): 400mV@2.4mA,8mA; Rise time: 2us@2mA,100Ω; Fall time: 3us@2mA,100Ω; Device: LTV-247; Supplier: LCSC; Manufacturer Part: LTV-247; Supplier Part: C115451; JLCPCB Part Class: Extended Part; LCSC Part Name: DC输入 隔离电压(rms):3750V; Supplier Footprint: SOP-16-5.4mm; Datasheet: https://atta.szlcsc.com/upload/public/pdf/source/20230919/3E7196EE6DB375F3BC93510F75354615.pdf; Convert to PCB: yes; Operating Temperature: -55℃~+110℃
footprint SOP-16_L10.3-W5.4-P1.27-LS7.8-BL
pins: 1 AN1, 2 CAT1, 3 AN2, 4 CAT2, 5 AN3, 6 CAT3, 7 AN4, 8 CAT4, 9 EM4, 10 COL4, 11 EM3, 12 COL3, 13 EM2, 14 COL2, 15 EM1, 16 COL1

## TP
designator TP?
测试点
footprint TP (测试点)
pins: 1

## TPS5430DDAR
designator U??  (value not drawn)
24V转5V 3A; Manufacturer: TI(德州仪器); Add into BOM: yes; Function: 降压型; Name: TPS5430DDAR; Symbol: TPS5430DDAR; Device: TPS5430DDAR; LCSC Part Name: 降压型; Supplier Part: C9864; Manufacturer Part: TPS5430DDAR; Supplier Footprint: SO-8; JLCPCB Part Class: Basic Part; Datasheet: https://atta.szlcsc.com/upload/public/pdf/source/20161207/1481104217724.pdf; Supplier: LCSC; Convert to PCB: yes; Synchronous Rectification: -; Number of Outputs: -; Topology: -; Input Voltage: -; Output Current (Max): -; Switching Frequency: -
footprint TPS5430 (ESOP-8_L4.9-W3.9-P1.27-LS6.0-TL-EP)
pins: 1 BOOT, 2 NC, 3 NC, 4 VSENSE, 5 ENA, 6 GND, 7 VIN, 8 PH, 9 PowerPAD

## TPS54202DDCR
designator U??  (value not drawn)
DCDC可欠压保护但效率比TPS5430低; Manufacturer: TI(德州仪器); Add into BOM: yes; Function: 降压型; Output Type: 可调; Input Voltage: 4.5V~28V; Output Voltage: 596mV~28V; Output Current (Max): 2A; Switching Frequency: 500kHz; Synchronous Rectification: 是; Number of Outputs: 1; Topology: 降压式; Switch tube (built-in/external): 内置; Symbol: TPS54202DDCR; Device: TPS54202DDCR; LCSC Part Name: 同步降压转换器; Supplier Part: C191884; Manufacturer Part: TPS54202DDCR; Supplier Footprint: SOT-23-6; JLCPCB Part Class: Extended Part; Datasheet: https://www.ti.com/cn/lit/gpn/tps54202; Supplier: LCSC; Convert to PCB: yes; Operating Temperature: -40℃~+125℃@(TJ)
footprint TPS54202 (SOT-23-6_L2.9-W1.6-P0.95-LS2.8-BL)
pins: 1 GND, 2 SW, 3 VIN, 4 FB, 5 EN, 6 BOOT

## TPS61040DBVR
designator U??  (value not drawn)
Manufacturer: TI(德州仪器); Add into BOM: yes; Function: 升压型; Input Voltage: 1.8V~6V; Output Voltage: 28V; Output Current (Max): 350mA; Switching Frequency: 1MHz; Synchronous Rectification: 否; Number of Outputs: 1; Topology: 升压式; Switch tube (built-in/external): 内置; Symbol: TPS61040DBVR; Device: TPS61040DBVR; LCSC Part Name: TPS61040DBVR; Supplier Part: C7722; Manufacturer Part: TPS61040DBVR; Supplier Footprint: SOT-23-5; JLCPCB Part Class: Extended Part; Datasheet: https://www.ti.com/cn/lit/gpn/tps61040; Supplier: LCSC; Convert to PCB: yes
pins: 1 SW, 2 GND, 3 FB, 4 EN, 5 VIN

## TS-1101-C-W
designator SW??  (value not drawn)
两脚按键; Manufacturer: XKB Connectivity(中国星坤); Add into BOM: yes; Contact Current: 50mA; Voltage Rating (DC): 12V; Circuit: 单刀单掷; Actuator Style: 矩形按钮; Actuator/Cap Color: 白色带淡绿; With Lamp: 无; Operating Force: 260gf; Mechanical Life: 5万次; Switch Length: 6mm; Switch Width: 3.6mm; Switch Height: 2.5mm; Strike Gundam: 否; Name: TS-1101-C-W; Symbol: TS-1101-C-W; Device: TS-1101-C-W; LCSC Part Name: 立贴 6*3.6*2.5mm 轻触开关 一型3*6*2.5有白ZD b拉伸白色带淡绿按键 卷装; Supplier Part: C318938; Manufacturer Part: TS-1101-C-W; Supplier Footprint: SMD; JLCPCB Part Class: Extended Part; Datasheet: https://atta.szlcsc.com/upload/public/pdf/source/20200227/C318938_C2E53B1EEDE37D980A33616AC086DE53.pdf; Supplier: LCSC; Convert to PCB: yes; Voltage Rating (AC): -; Power Rating: -; Insulation Resistance: -; Mounting Style: 立贴; Operating Temperature: -30℃~+85℃; IP Rating: -; Pin Style: -; Diameter: -
footprint SW-SMD_L6.0-W6.0-LS6.6
footprint SW-TH_2P-L15.0-W10.5-P5.00_KCD11-2P-R
pins: 1, 2

## TSW SMD-6x6
designator SW?, comment 6x6x5  (value not drawn)
贴片6x6轻触开关; BOM名称: 贴片6x6轻触开关
footprint SW DIP-6*6*10 (6*6*10mm)
pins: 1, 2, 3, 4

## ULN2003D1013TR
designator U??  (value not drawn)
达林顿管; Manufacturer: ST(意法半导体); Add into BOM: yes; Name: ULN2003D1013TR; Symbol: ULN2003D1013TR; Device: ULN2003D1013TR; LCSC Part Name: ULN2003D1013TR; Supplier Part: C61273; Manufacturer Part: ULN2003D1013TR; Supplier Footprint: SOP-16; JLCPCB Part Class: Extended Part; Datasheet: https://atta.szlcsc.com/upload/public/pdf/source/20171116/C93000_15108227945891124497.pdf; Supplier: LCSC; Convert to PCB: yes
footprint ULN2003D1013TR (SOIC-16_L9.9-W3.9-P1.27-LS6.0-BL)
pins: 1 1B, 2 2B, 3 3B, 4 4B, 5 5B, 6 6B, 7 7B, 8 E, 9 COM, 10 7C, 11 6C, 12 5C, 13 4C, 14 3C, 15 2C, 16 1C

## USB-A
designator USB??, comment USB-TYPE-A  (value not drawn)
Manufacturer: XUNPU(讯普); Symbol: USB-231-ARY; Add into BOM: yes; Connector Type: Type-A; Gender: 母; Number of Ports: 1; Number of Contacts: 4P; Current Rating - Power (Max): 1.5A; Soldering Temperature(Max): 260℃; Device: USB-231-ARY; Supplier: LCSC; Supplier Part: C720525; Manufacturer Part: USB-231-ARY; JLCPCB Part Class: Extended Part; LCSC Part Name: Type-A 母 弯插; Supplier Footprint: 插件; Datasheet: https://atta.szlcsc.com/upload/public/pdf/source/20200810/C720525_A4C9C15D608FF9239C9C137FD959DB52.pdf; Convert to PCB: yes; Standard: USB 2.0; Mounting Style: 弯插; Contact Material: -; Contact Plating: -; Operating Temperature Range: -20℃~+70℃
footprint USB-A (USB-4P-A)
pins: 1 VBUS, 2 D-, 3 D+, 4 GND, 5 GND, 6 GND

## USB-A-X2
designator USB??  (value not drawn)
Manufacturer: XUNPU(讯普); Symbol: USB-303WSD-BRY; Add into BOM: yes; Connector Type: Type-A; Gender: 母; Number of Ports: 2; Number of Contacts: 9P+9P; Current Rating - Power (Max): 1.8A; Soldering Temperature(Max): 260℃; Device: USB-303WSD-BRY; Supplier: LCSC; Supplier Part: C2895028; Manufacturer Part: USB-303WSD-BRY; JLCPCB Part Class: Extended Part; LCSC Part Name: Type-A 母 弯插; Supplier Footprint: 插件; Datasheet: https://atta.szlcsc.com/upload/public/pdf/source/20230426/A73C665BA3413059F595E5846F1512B5.pdf; Convert to PCB: yes; Standard: USB 3.0; Mounting Style: 弯插; Operating Temperature Range: -30℃~+85℃
footprint USB-A-X2
pins: 1 VBUS1, 2 D1-, 3 D1+, 4 GND1, 5 StdA_SSRX1-, 6 StdA_SSRX1+, 7 GND_DRAIN1, 8 StdA_SSTX1-, 9 StdA_SSTX1+, 10 VBUS2, 11 D2-, 12 D2+, 13 GND2, 14 StdA_SSRX2-, 15 StdA_SSRX2+, 16 GND_DRAIN2, 17 StdA_SSTX2-, 18 StdA_SSTX2+, 19 Shield, 20 Shield, 21 Shield, 22 Shield

## USB-C
designator USB?, comment TYPEC
Manufacturer: XUNPU(讯普); Name: TYPEC-304-ACP16; Add into BOM: yes; Connector Type: Type-C; Gender: 母座; Number of Contacts: 16; Number of Ports: 1; Current Rating - Power (Max): 3A; Symbol: TYPEC-304-ACP16; Device: TYPEC-304-ACP16; LCSC Part Name: Type-C 母座 卧贴; Supplier Part: C2982555; Manufacturer Part: TYPEC-304-ACP16; Supplier Footprint: SMD; JLCPCB Part Class: Extended Part; Supplier: LCSC; Convert to PCB: yes; Mounting Style: 卧贴; Operating Temperature Range: -40℃~+85℃
footprint USB-C-SMD_TYPE-C-16P-1 - duplicate
pins: A1B12 GND, A4B9 VBUS, A5 CC1, A6 D+, A7 D-, A8 SBU1, B1A12 GND, B4A9 VBUS, B5 CC2, B6 D+, B7 D-, B8 SBU2, EP

## WL9981TC
designator U??
蓝牙模块; Manufacturer: QIACHIP(七艾); Symbol: WL9981TC_C2689544; Add into BOM: yes; Device: WL9981TC; Supplier: LCSC; Supplier Part: C2689544; Manufacturer Part: WL9981TC; JLCPCB Part Class: Extended Part; LCSC Part Name: WL9981TC 蓝牙透传模块 新版本; Supplier Footprint: -; Datasheet: https://atta.szlcsc.com/upload/public/pdf/source/20210127/C2689544_16B7A22C2B4F8191AA3ABDA5209FDE81.pdf; Convert to PCB: yes
footprint WIRELM-SMD_WL9981TC-2
pins: 1 VDD, 2 GND, 3 UART-TX, 4 UART-RX, 5 DigitalI/O, 6 DigitalI/O

## XT_PW
designator CN??, comment XT_PW-M  (value not drawn)
Manufacturer: AMASS(艾迈斯); Name: XT30PW-M; Add into BOM: yes; Symbol: XT30PW-M; Device: XT30PW-M; LCSC Part Name: AMASS(艾迈斯)航模插头 卧式弯脚 XT30PW-M公头; Supplier Part: C431092; Manufacturer Part: XT30PW-M; Supplier Footprint: -; JLCPCB Part Class: Extended Part; Datasheet: https://atta.szlcsc.com/upload/public/pdf/source/20220222/6A9F22F7850E25B33E1BE430ADF8560B.pdf; Supplier: LCSC; Convert to PCB: yes
footprint XT30PW-F (13.3*14.9*5)
footprint XT30PW-M (13.3*13.95*5)
footprint XT60PW-M (CONN-TH_XT60PW-M)
footprint XT60PW-FM (TH_2P-XT60PW-F)
pins: 1, 2, 3, 4

## XT_U
designator XT?  (value not drawn)
Manufacturer: DORABO(地博电气); Symbol: DB2ERC-3.81-2P; Device: DB2ERC-3.81-2P-GN; Add into BOM: yes; Connector Type: 板端/插座-闭口; Structure: 1x2P; Pitch: 3.81mm; Number of PINs Per Row: 2; Current Rating (Max): 10A; Voltage Rating (Max): 250V; LCSC Part Name: 3.81mm 1x2P 排数:1 每排P数:2; Supplier Part: C395684; Manufacturer Part: DB2ERC-3.81-2P-GN; Supplier Footprint: 弯插,P=3.81mm; JLCPCB Part Class: Extended Part; Datasheet: https://atta.szlcsc.com/upload/public/pdf/source/20221115/4E217E7D538220F8720C137D6A05E519.pdf; Supplier: LCSC; Convert to PCB: yes; Color: 绿色; Mounting Style: 弯针; Number of Pins: 2P; Number of Rows: 1; Operating Temperature Range: -40℃~+105℃
footprint XT30U_M (CONN-TH_XT30U-M)
footprint XT30U_FM (CONN-TH_XT30U-FM)
footprint XT60U-M (CONN-TH_XT60)
footprint XT60U-FM (CONN-TH_XT60)
pins: 1, 2

## XTAL-2P
designator X?, comment 32.768KHz
2脚无源脚晶振; 负载电容: CL20pF; BOM名称: 2脚无源脚晶振
footprint OSC_3215 (OSC-SMD_2P-L3.2-W1.5)
pins: 1, 2

## XTAL-4P
designator X?, comment 12M
4脚无源晶振; 负载电容: CL20pF; BOM名称: 4脚无源晶振
footprint OSC 3225-4P - duplicate1 (3.2*2.5*0.7mm(长宽高))
pins: 1, 2, 3, 4